# EAGLE library part ADUM1250ARZ (library IC_for_Selfbus-Projects)
Hot Swappable, Dual I2C Isolators
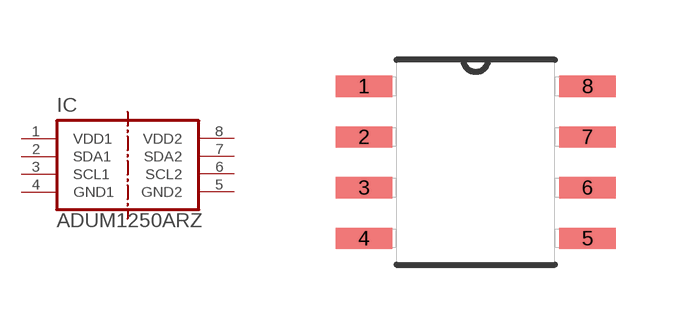
[diagram p3: symbol with the pads of SOIC127P600X175-8N; footprint SOIC127P600X175-8N]

Designator prefix IC

## ADUM1250ARZ  [SOIC127P600X175-8N]
1  VDD1  pwr
2  SDA1  out
3  SCL1  in
4  GND1  pas
5  GND2  pas
6  SCL2  out
7  SDA2  in
8  VDD2  pwr

## Footprint SOIC127P600X175-8N (pad centres in mm)
Small Outline Package
smd 1.422 x 0.533: 1 -2.794,1.27; 2 -2.794,0; 3 -2.794,-1.27; 4 -2.794,-2.54; 5 2.794,-2.54; 6 2.794,-1.27; 7 2.794,0; 8 2.794,1.27